# Altium schematic symbol library Sensor,Temp,Analog,Thru.Schlib: 1 symbol
Pins are listed as number, name and electrical type; pins without a type are passive.

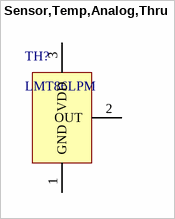
[diagram p0: symbol Sensor,Temp,Analog,Thru]

## Sensor,Temp,Analog,Thru
designator TH?, comment LMT86LPM
Temperature Sensor Analog, Local -50°C ~ 150°C 10.9mV/°C TO-92-3
pins: 1 GND, 2 OUT, 3 VDD